# EAGLE library part STD043F05X2 (library con-pinheader-standard)
female standard header 2mm, 4.3mm height
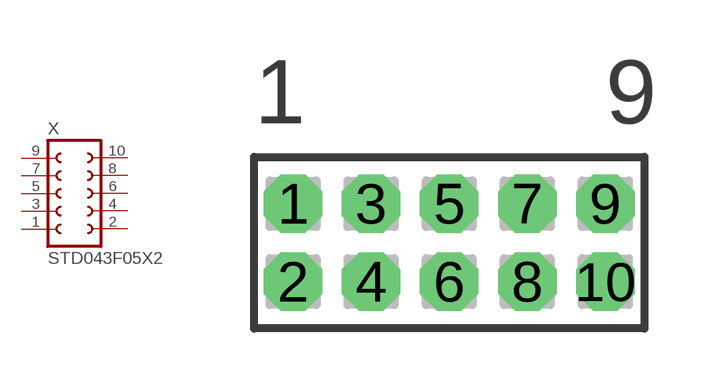
[diagram p18: symbol with the pads of STD043F05X2-2.00; footprint STD043F05X2-2.00]

Designator prefix X

## STD043F05X2-2.00MM  [STD043F05X2-2.00]
1  1  pas
2  2  pas
3  3  pas
4  4  pas
5  5  pas
6  6  pas
7  7  pas
8  8  pas
9  9  pas
10  10  pas

## Footprint STD043F05X2-2.00 (pad centres in mm)
female standard header 2mm, 4.3mm height
drill 0.8 pad 1.5 octagon: 1 -4,1; 2 -4,-1; 3 -2,1; 4 -2,-1; 5 0,1; 6 0,-1; 7 2,1; 8 2,-1; 9 4,1; 10 4,-1